# EAGLE library part PEL12T (library PP_Electromechanical)
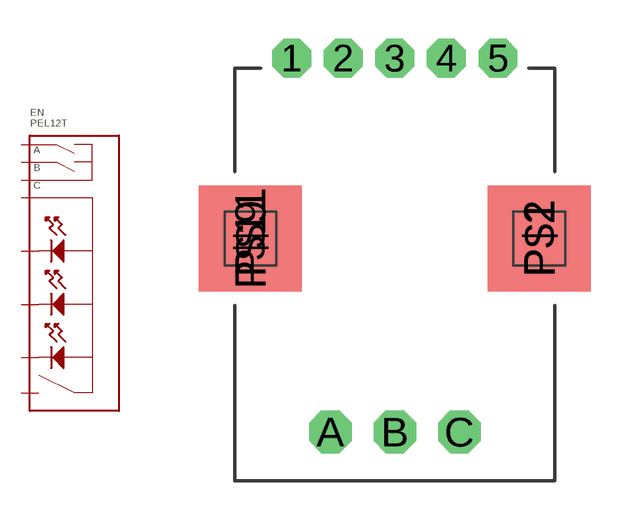
[diagram p6: symbol with the pads of PEL12T; footprint PEL12T]

Designator prefix EN

## PEL12T  [PEL12T]
1  1
2  2
3  3
4  4
5  5
A  A
B  B
C  C

## Footprint PEL12T (pad centres in mm)
drill 1 octagon: 1 -4,7; 2 -2,7; 3 0,7; 4 2,7; 5 4,7
drill 1.1 octagon: A -2.5,-7.5; B 0,-7.5; C 2.5,-7.5
smd 4 x 4.1 bottom: P$1 5.6,0; P$9 -5.6,0
smd 4 x 4.1: P$2 5.6,0; P$11 -5.6,0